# EAGLE library part INPUTS_TOP (library harrison)
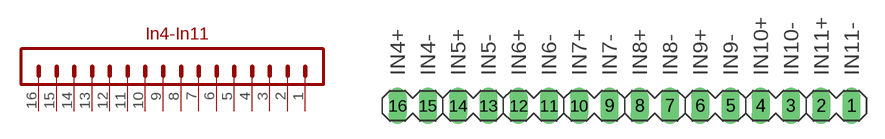
[diagram p21: symbol with the pads of INPUTS_TOP; footprint INPUTS_TOP]

Designator prefix -

## INPUTS_TOP  [INPUTS_TOP]
1  P$16  pas
2  P$15  pas
3  P$14  pas
4  P$13  pas
5  P$12  pas
6  P$11  pas
7  P$10  pas
8  P$9  pas
9  P$8  pas
10  P$7  pas
11  P$6  pas
12  P$5  pas
13  P$4  pas
14  P$3  pas
15  P$2  pas
16  P$1  pas

## Footprint INPUTS_TOP (pad centres in mm)
drill 1.016 long: 1 19.685,0; 2 17.145,0; 3 14.605,0; 4 12.065,0; 5 9.525,0; 6 6.985,0; 7 4.445,0; 8 1.905,0; 9 -0.635,0; 10 -3.175,0; 11 -5.715,0; 12 -8.255,0; 13 -10.795,0; 14 -13.335,0; 15 -15.875,0; 16 -18.415,0